# Altium schematic symbol library Schematics.SchLib: 3 symbols
Pins are listed as number, name and electrical type; pins without a type are passive.

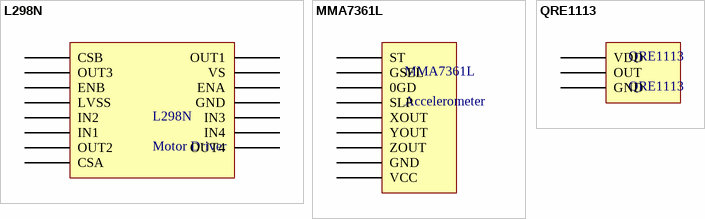
[diagram p0: symbols L298N to QRE1113]

## L298N
designator L298N, comment Motor Driver
Dual Full Bridge Motor Driver; ComponentLink: http://www.sparkfun.com/datasheets/Components/General/L298N.pdf
pins: CSA, CSB, ENA, ENB, GND, IN1, IN2, IN3, IN4, LVSS, OUT1, OUT2, OUT3, OUT4, VS

## MMA7361L
designator MMA7361L, comment Accelerometer
3-Axis Accelerometer Breakout; ComponentURL: https://www.sparkfun.com/products/9652
pins: 0GD, GND, GSEL, SLP, ST, VCC, XOUT, YOUT, ZOUT

## QRE1113
designator QRE1113
Object Sensor
pins: GND, OUT, VDD